# EAGLE library part MAX16910 (library m_vreg)
200mA Automotive Ultra-Low Quiescent Current Linear Regulator Low 20?A Quiescent Current +3.5V to +30V Wide Input Voltage Range, +45V Tolerant Operates Through Cold-Crank Conditions Low-Dropout Voltage of 280mV at 200mA Up to 200mA Output Current Capability Stable Operation with Tiny 4.7?F Output Capacitor User-Selectable Output Voltage: +3.3V or +5V Fixed, +1.5V to +11V Adjustable with External Resistive Divider Open-Drain RESET Output with Adjustable Delay Fixed-Reset Threshold Options: 87.5% or 92.5% High-Voltage Enable Input (+45V) Thermal and Short-Circuit Protection Operating -40°C to +125°C Temperature Range Operating -40°C to +150°C (TJ) Temperature Range Automotive Qualified General Description The MAX16910 ultra-low quiescent current, high-voltage linear regulator is ideal for use in automotive and battery- operated systems. The device operates from a +3.5V to +30V input voltage, delivers up to 200mA of load cur- rent, and consumes only 20?A of quiescent current at no load. The device consumes only 1.6?A current when in shutdown. The input is +45V transient tolerant and is designed to operate under load-dump conditions. The MAX16910 can be configured as either fixed output volt- age (+3.3V or +5V) or adjustable output voltage using an external resistive divider. The MAX16910 features an open-drain, active-low RESET output with fixed thresholds offered at 92.5% and 87.5% of the output voltage. The RESET output remains low for a fixed period of 60?s after the output voltage exceeds its threshold. The RESET delay can be extended with an external capacitor. The MAX16910 includes an enable input, short-circuit protection, and thermal shutdown. The MAX16910 oper- ates over the -40°C to +125°C automotive temperature range. The device is available in a space-saving, ther- mally enhanced, 3mm x 3mm, 8-pin TDFN package and 5mm x 4mm, 8-pin SO package.
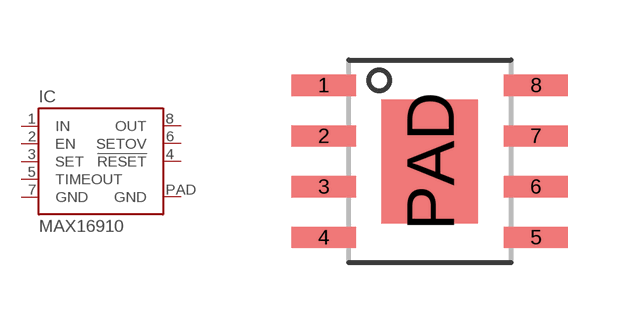
[diagram p6: symbol with the pads of 8_SO-EP; footprint 8_SO-EP]

Designator prefix IC

## MAX16910CASA (MANUF: Maxim; PARTNUM: MAX16910CASAx/V)  [8_SO-EP]
1  IN
2  EN
3  SET
4  !RESET
5  TIMEOUT
6  SETOV
7  GND
8  OUT
PAD  GND

## Footprint 8_SO-EP (pad centres in mm)
Thermally enhanced 5mm x 4mm 8-pin SO package Maxim Package Land Pattern [S8E-12 / S8E+12] 10/19/2011, document number 90-0150
smd 1.6 x 0.533: 1 -2.654,1.905; 2 -2.654,0.635; 3 -2.654,-0.635; 4 -2.654,-1.905; 5 2.654,-1.905; 6 2.654,-0.635; 7 2.654,0.635; 8 2.654,1.905
smd 2.413 x 3.099: PAD 0,0